# Altium schematic symbol library SYMBOL-XYZ.Schlib: 1 symbol
Pins are listed as number, name and electrical type; pins without a type are passive.

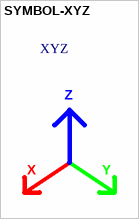
[diagram p0: symbol SYMBOL-XYZ]

## SYMBOL-XYZ
designator XYZ  (no BOM)
Cartesian Coordinate System
text: Z; X; Y